# Altium schematic symbol library ERA-6AEB101V.SchLib: 2 symbols
Pins are listed as number, name and electrical type; pins without a type are passive.

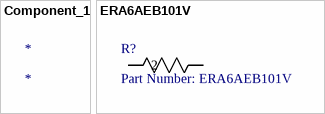
[diagram p0: symbols Component_1 to ERA6AEB101V]

## Component_1
designator *

## ERA6AEB101V
designator R?, comment Part Number: ERA6AEB101V
No Description Available; Vendor: Panasonic; Built_By: EMA_UL_Team; Manufacturer_Part_Number: ERA6AEB101V; Copyright: Copyright (C) 2018 Accelerated Designs. All rights reserved; RefDes: RefDes; Type: DEV; Value: Value
footprint RES_ERA6A_0805
pins: 1, 2